# Altium footprint library Vocore2Parts.PcbLib: 23 footprints (part 1 of 2)
Each footprint in its own frame and in the unit in brackets; x right, y up, seen from the top. Pads: shape width x height; smd on the part's side, far side on the other; paste and mask are expansions set on the pad; w line width, h text height; cw(c..) or ccw(c..) is an arc to the next point about the centre after c.
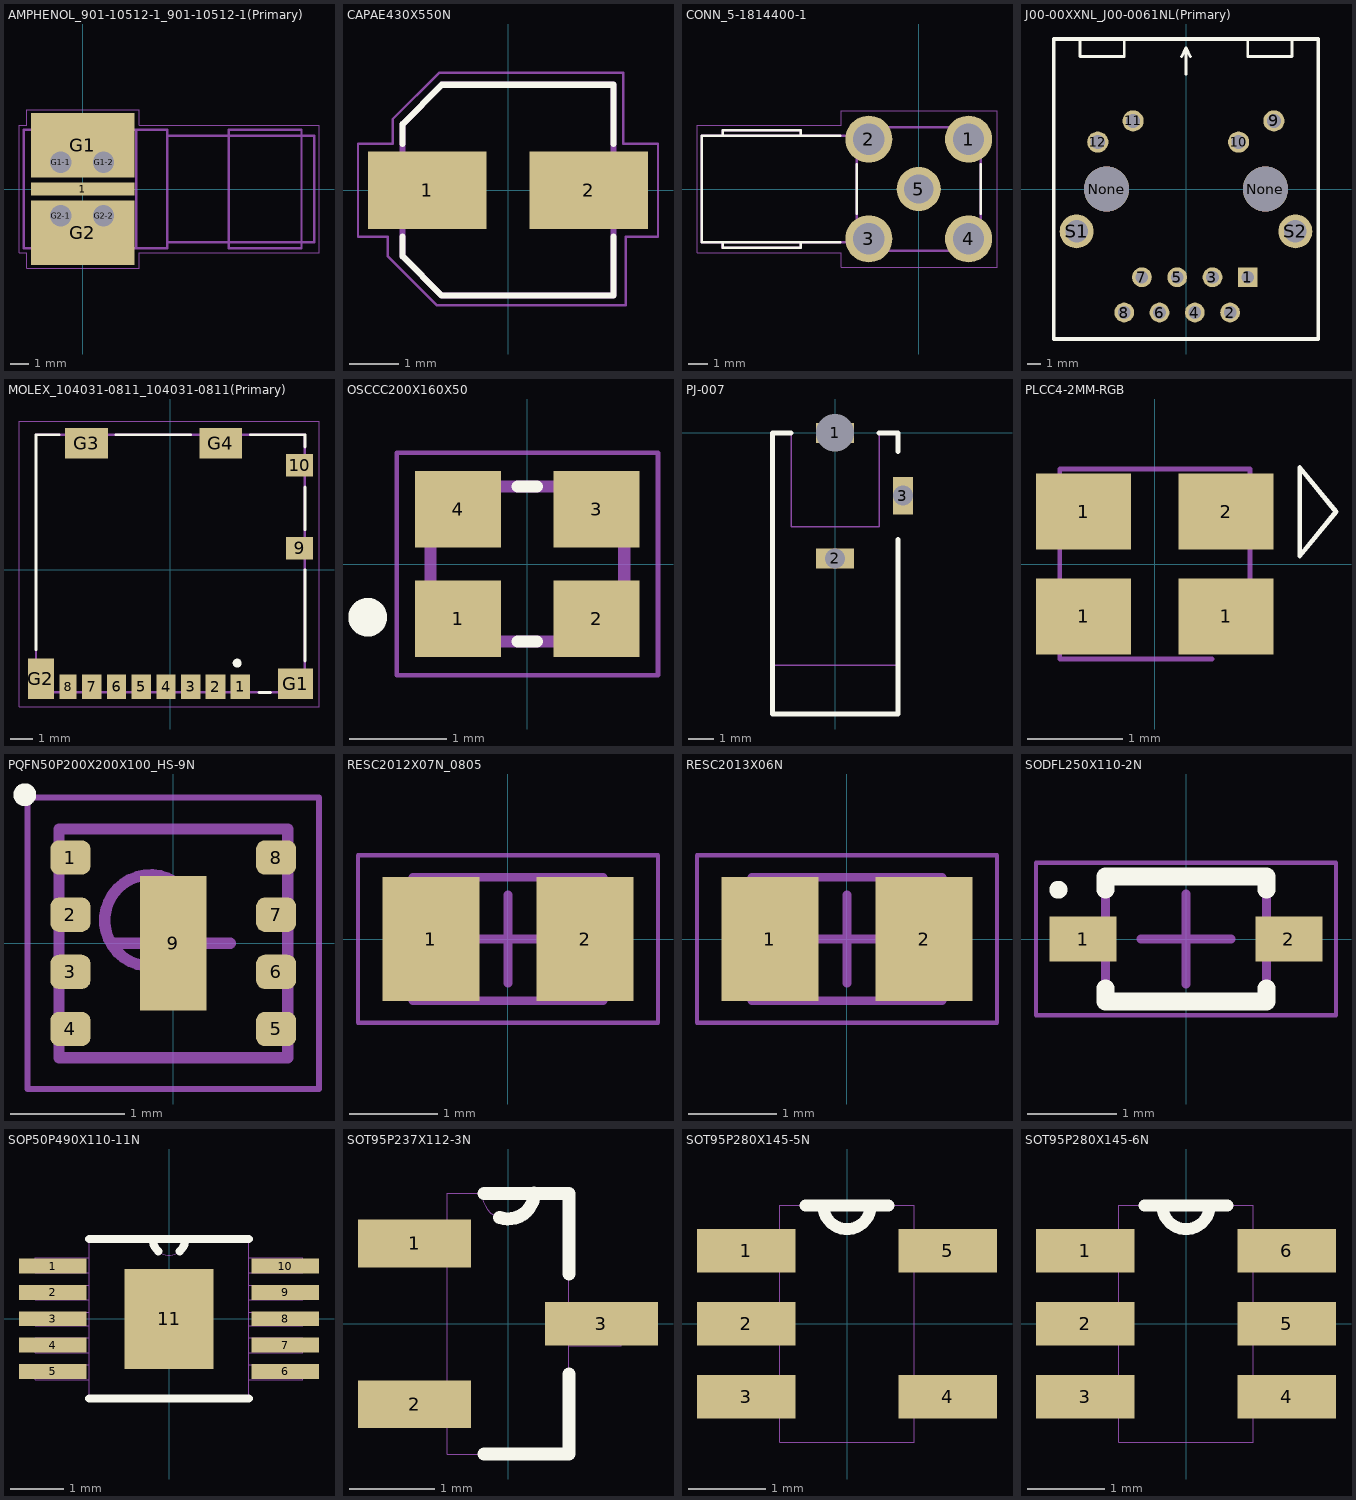
[diagram p0: the footprints below, top view; thin cyan lines are the x and y axes]

## AMPHENOL_901-10512-1_901-10512-1(Primary) [mm]
pads (7):
  rect 5.54x0.72 smd: 1(0,0)
  rect 5.54x3.45 smd: G1(0,2.34) G2(0,-2.34)
  round 1.4 hole 1.14: G1-1(-1.19,1.435) G1-2(1.102,1.435) G2-1(-1.19,-1.435) G2-2(1.102,-1.435)
Mechanical 1:
  lines w0.05: -3.425,-3.425 -3,-3.425 -3,-4.25 3,-4.25 3,-3.425 12.635,-3.425 12.635,3.425 3,3.425 3,4.25 -3,4.25 -3,3.425 -3.425,3.425 -3.425,-3.425
  lines w0.127: 2.855,-3.175 2.855,3.175 ; 2.855,-3.175 4.505,-3.175 4.505,-2.855 ; 2.855,-3.175 -3.175,-3.175 -3.175,3.175 2.855,3.175 ; 2.855,3.175 4.505,3.175 4.505,2.855 ; 4.505,-2.855 12.385,-2.855 12.385,2.855 4.505,2.855 ; 4.505,-2.855 4.505,2.855 ; 7.8,-3.175 7.8,3.175 11.7,3.175 11.7,-3.175 7.8,-3.175

## CAPAE430X550N [mm]
pads (2):
  rect 2.42x1.58 smd: 1(-1.65,0) 2(1.65,0)
Top Overlay:
  lines w0.127: -2.15,-0.95 -2.15,-1.35 -1.35,-2.15 2.15,-2.15 2.15,-0.95 ; -2.15,0.95 -2.15,1.35 -1.35,2.15 2.15,2.15 2.15,0.95
Mechanical 1:
  lines w0.05: -3.06,-0.95 -3.06,0.95 -2.35,0.95 -2.35,1.45 -1.4,2.4 2.35,2.4 2.35,0.95 3.06,0.95 3.06,-0.95 2.4,-0.95 2.4,-2.35 -1.45,-2.35 -2.45,-1.35 -2.45,-0.95 -3.06,-0.95
  lines w0.127: -2.15,-1.35 -2.15,1.35 -1.35,2.15 2.15,2.15 2.15,-2.15 -1.35,-2.15 -2.15,-1.35

## CONN_5-1814400-1 [mm]
pads (5):
  round 2.4 hole 1.6: 1(2.54,2.54) 2(-2.54,2.54) 3(-2.54,-2.54) 4(2.54,-2.54)
  round 2.25 hole 1.5: 5(0,0)
Top Overlay:
  lines w0.127: -10,-2.75 -10,-3 -6,-3 -6,-2.75 ; -10,2.75 -10,3 -6,3 -6,2.75 ; -4,-2.725 -11.05,-2.725 -11.05,2.725 -4,2.725 ; -3.15,-1.25 -3.15,1.25 ; 3.15,-1.25 3.15,1.25
Mechanical 1:
  lines w0.05: -11.3,-3.25 -11.3,3.25 -3.95,3.25 -3.95,3.99 3.99,3.99 3.99,-3.99 -3.95,-3.99 -3.95,-3.25 -11.3,-3.25
  lines w0.127: -10.002,-2.75 -10.002,-3 -6.002,-3 -6.002,-2.75 ; -10,2.75 -10,3 -6,3 -6,2.75 ; -3.238,-2.725 -11.05,-2.725 -11.05,2.725 -3.238,2.725 ; -3.15,-3.15 -3.15,3.15 3.15,3.15 3.15,-3.15 -3.15,-3.15

## J00-00XXNL_J00-0061NL(Primary) [mil]
pads (16):
  rect 56x56 hole 36: 1(175,-250)
  round 56 hole 36: 2(125,-350) 3(75,-250) 4(25,-350) 5(-25,-250) 6(-75,-350) 7(-125,-250) 8(-175,-350)
  round 60 hole 40: 9(249,193) 10(149,133) 11(-150,193) 12(-250,133)
  round 128 hole 128 unplated: None(-225,0) None(225,0)
  round 96 hole 64: S1(-310,-120) S2(310,-120)
Top Overlay:
  lines w8: -300,425 -300,375 -175,375 -175,425 ; -12.5,375 0,400 ; 0,325 0,400 ; 12.5,375 0,400 ; 175,425 175,375 300,375 300,425
  lines w10: -375,-425 375,-425 375,425 -375,425 -375,-425

## MOLEX_104031-0811_104031-0811(Primary) [mm]
pads (14):
  rect 0.85x1.1 smd: 1(3.105,-5.2) 3(0.905,-5.2) 4(-0.195,-5.2) 5(-1.295,-5.2) 6(-2.395,-5.2) 7(-3.495,-5.2)
  rect 0.875x1.1 smd: 2(2.005,-5.2)
  rect 0.75x1.1 smd: 8(-4.545,-5.2)
  rect 1.2x1 smd: 9(5.74,0.95) 10(5.74,4.65)
  rect 1.55x1.35 smd: G1(5.565,-5.075)
  rect 1.17x1.8 smd: G2(-5.755,-4.85)
  rect 1.9x1.35 smd: G3(-3.73,5.625) G4(2.24,5.625)
Top Overlay:
  circle w0.2: c2.968,-4.151 r0.1
  lines w0.127: -5.975,-3.556 -5.975,6 -4.953,6 ; -2.413,6 0.889,6 ; 3.556,6 5.975,6 5.975,5.461 ; 3.937,-5.45 4.445,-5.45 ; 5.975,-4.064 5.975,0 ; 5.975,1.778 5.975,3.683
Mechanical 1:
  lines w0.05: -6.731,-6.096 -6.731,6.604 6.604,6.604 6.604,-6.096 -6.731,-6.096
  lines w0.1: -5.975,-5.45 -5.975,6 5.975,6 5.975,-5.45 -5.975,-5.45

## OSCCC200X160X50 [mm]
pads (4):
  rect 0.89x0.79 smd: 1(-0.715,-0.565) 2(0.715,-0.565) 3(0.715,0.565) 4(-0.715,0.565)
Top Overlay:
  circle w0.2: c-1.65,-0.55 r0.1
  lines w0.127: -0.1,-0.8 0.1,-0.8 ; -0.1,0.8 0.1,0.8
Mechanical 1:
  circle w0.2: c-0.65,-0.45 r0.1
  lines w0.05: -1.35,-1.15 1.35,-1.15 1.35,1.15 -1.35,1.15 -1.35,-1.15
  lines w0.127: -1,-0.8 1,-0.8 1,0.8 -1,0.8 -1,-0.8

## PJ-007 [mm]
pads (3):
  rect 1.5x0.8 hole 1.5 square: 1(0,0)
  rect 1.5x0.8 hole 0.8 square: 2(0,-5)
  rect 0.8x1.5 hole 0.8 square: 3(2.7,-2.5)
Top Overlay:
  lines w0.203: -1.75,0 -2.5,0 -2.5,-11.2 2.5,-11.2 2.5,-4.25 ; 1.75,0 2.5,0 2.5,-0.75
Mechanical 1:
  lines w0.051: -2.5,-9.25 2.5,-9.25 ; -1.75,0 -1.75,-3.75 1.75,-3.75 1.75,0

## PLCC4-2MM-RGB [mm]
pads (4):
  rect 1x0.8 smd: 1(-0.75,-0.55) 1(-0.75,0.55) 1(0.75,-0.55) 2(0.75,0.55)
Top Overlay:
  lines w0.05: 1.524,0.084 1.905,0.55 1.524,1.016 1.524,0.084
Mechanical 1:
  lines w0.05: 0.6,-1 -1,-1 -1,1 1,1 1,-0.6

## PQFN50P200X200X100_HS-9N [mm] "PQFN, 8-Leads, Body 2.00x2.00mm, Pitch 0.50mm, Thermal Pad 0.58x1.18mm, IPC Medium Density"
height 1
pads (9):
  rrect50% 0.35x0.3 smd: 1(-0.9,0.75) 2(-0.9,0.25) 3(-0.9,-0.25) 4(-0.9,-0.75) 5(0.9,-0.75) 6(0.9,-0.25) 7(0.9,0.25) 8(0.9,0.75)
  rect 0.58x1.18 smd: 9(0,0)
Top Overlay:
  circle w0.1: c-1.3,1.3 r0.05
Mechanical 13:
  circle w0.1: c-0.2,0.2 r0.4
  lines w0.1: -1,-1 1,-1 1,1 -1,1 -1,-1
Mechanical 15:
  lines w0.05: -1.275,-1.275 1.275,-1.275 1.275,1.275 -1.275,1.275 -1.275,-1.275
  lines w0.1: -0.5,0 0.5,0 ; 0,-0.5 0,0.5
3D body: height 0.25, standoff 0, extent -1,-1 1,1

## RESC2012X07N_0805 [mm] "Chip Resistor, 2-Leads, Body 2.00x1.22mm, IPC Medium Density"
height 0.65
pads (2):
  rect 1.1x1.4 smd: 1(-0.875,0) 2(0.875,0)
Mechanical 13:
  lines w0.1: -1.075,-0.7 1.075,-0.7 1.075,0.7 -1.075,0.7 -1.075,-0.7
Mechanical 15:
  lines w0.05: -1.7,-0.95 1.7,-0.95 1.7,0.95 -1.7,0.95 -1.7,-0.95
  lines w0.1: -0.5,0 0.5,0 ; 0,-0.5 0,0.5
3D body: height 0.65, standoff 0, extent 0.675,-0.7 1.075,0.7
3D body: height 0.65, standoff 0, extent -1.075,-0.7 -0.675,0.7
3D body: height 0.65, standoff 0, extent -0.675,-0.7 0.675,0.7

## RESC2013X06N [mm] "Chip Resistor, 2-Leads, Body 2.00x1.27mm, IPC Medium Density"
height 0.65
pads (2):
  rect 1.1x1.4 smd: 1(-0.875,0) 2(0.875,0)
Mechanical 13:
  lines w0.1: -1.075,-0.7 -1.075,0.7 1.075,0.7 1.075,-0.7 -1.075,-0.7
Mechanical 15:
  lines w0.05: -1.7,-0.95 -1.7,0.95 1.7,0.95 1.7,-0.95 -1.7,-0.95
  lines w0.1: -0.5,0 0.5,0 ; 0,-0.5 0,0.5
3D body: height 0.65, standoff 0, extent -0.675,-0.7 0.675,0.7
3D body: height 0.65, standoff 0, extent -1.075,-0.7 -0.675,0.7
3D body: height 0.65, standoff 0, extent 0.675,-0.7 1.075,0.7

## SODFL250X110-2N [mm] "SODFL, 2-Leads, Body 1.25x2.50mm, IPC Medium Density"
height 1.1
pads (2):
  rect 0.75x0.5 smd: 1(-1.15,0) 2(1.15,0)
Top Overlay:
  circle w0.1: c-1.425,0.55 r0.05
  lines w0.2: -0.9,-0.55 -0.9,-0.7 0.9,-0.7 0.9,-0.55 ; -0.9,0.55 -0.9,0.7 0.9,0.7 0.9,0.55
Mechanical 13:
  lines w0.1: -0.9,-0.675 -0.9,0.675 0.9,0.675 0.9,-0.675 -0.9,-0.675
Mechanical 15:
  lines w0.05: -1.675,-0.85 -1.675,0.85 1.675,0.85 1.675,-0.85 -1.675,-0.85
  lines w0.1: -0.5,0 0.5,0 ; 0,-0.5 0,0.5
3D body: height 1.1, standoff 0, extent -0.9,-0.675 0.9,0.675

## SOP50P490X110-11N [mil]
pads (11):
  rect 50x11 smd: 1(-86,39) 2(-86,19.5) 3(-86,0) 4(-86,-19.5) 5(-86,-39) 6(86,-39) 7(86,-19.5) 8(86,0) 9(86,19.5) 10(86,39)
  rect 66x74 smd: 11(0,0)
Top Overlay:
  lines w6: -59,-59 59,-59 ; -59,59 -12,59 ; -7.99,49.99 cw(c0.11,58.99) -12,58.99 ; 7.99,49.99 ccw(c-0.11,58.99) 12,58.99 ; 59,59 12,59 ; -12,59 12,59
Mechanical 1:
  lines w0: -12,59 ccw(c0,59) 12,59 ; -12,59 -59,59 -59,-59 59,-59 59,59 12,59 ; -12,59 12,59 ; -99,-45 -59,-45 -59,-34 -99,-34 -99,-45 ; -99,-25 -59,-25 -59,-14 -99,-14 -99,-25 ; -99,-5 -59,-5 -59,5 -99,5 -99,-5 ; -99,14 -59,14 -59,25 -99,25 -99,14 ; -99,34 -59,34 -59,45 -99,45 -99,34 ; 59,-45 99,-45 99,-34 59,-34 59,-45 ; 59,-25 99,-25 99,-14 59,-14 59,-25 ; 59,-5 99,-5 99,5 59,5 59,-5 ; 59,14 99,14 99,25 59,25 59,14 ; 59,34 99,34 99,45 59,45 59,34

## SOT95P237X112-3N [mil]
pads (3):
  rect 52x22 smd: 1(-43,37) 2(-43,-37)
  rect 52x20 smd: 3(43,0)
Top Overlay:
  lines w6: -11,-60 28,-60 28,-23 ; -11,60 12,60 28,60 28,23 ; -3.9,48.96 ccw(c0.15,60.1) 12,60.1
Mechanical 1:
  lines w0: -28,-47 -52,-47 -52,-28 -28,-28 ; -28,-47 -28,-28 ; -28,-47 -28,-60 28,-60 28,-10 ; -28,-28 -28,28 ; -28,28 -52,28 -52,47 -28,47 ; -28,28 -28,47 ; -28,47 -28,60 -12,60 ; -12,60 ccw(c0,60) 12,60 ; -12,60 12,60 ; 12,60 28,60 28,10 ; 28,-10 52,-10 52,10 28,10 ; 28,-10 28,10

## SOT95P280X145-5N [mil]
pads (5):
  rect 50x22 smd: 1(-51,37) 2(-51,0) 3(-51,-37) 4(51,-37) 5(51,37)
Top Overlay:
  lines w6: -21,60 -12,60 ; 21,60 12,60 ; -12,60 ccw(c0,60) 12,60 ; -12,60 12,60
Mechanical 1:
  lines w0: -34,-47 -59,-47 -59,-28 -34,-28 ; -34,-47 -34,-28 ; -34,-47 -34,-60 34,-60 34,-47 ; -34,-28 -34,-10 ; -34,-10 -59,-10 -59,10 -34,10 ; -34,-10 -34,10 ; -34,10 -34,28 ; -34,28 -59,28 -59,47 -34,47 ; -34,28 -34,47 ; -34,47 -34,60 -12,60 ; -12,60 ccw(c0,60) 12,60 ; -12,60 12,60 ; 12,60 34,60 34,47 ; 34,-47 59,-47 59,-28 34,-28 ; 34,-47 34,-28 ; 34,-28 34,28 ; 34,28 59,28 59,47 34,47 ; 34,28 34,47

## SOT95P280X145-6N [mil]
pads (6):
  rect 50x22 smd: 1(-51,37) 2(-51,0) 3(-51,-37) 4(51,-37) 5(51,0) 6(51,37)
Top Overlay:
  lines w6: -21,60 -12,60 ; 21,60 12,60 ; -12,60 ccw(c0,60) 12,60 ; -12,60 12,60
Mechanical 1:
  lines w0: -34,-47 -59,-47 -59,-28 -34,-28 ; -34,-47 -34,-28 ; -34,-47 -34,-60 34,-60 34,-47 ; -34,-28 -34,-10 ; -34,-10 -59,-10 -59,10 -34,10 ; -34,-10 -34,10 ; -34,10 -34,28 ; -34,28 -59,28 -59,47 -34,47 ; -34,28 -34,47 ; -34,47 -34,60 -12,60 ; -12,60 ccw(c0,60) 12,60 ; -12,60 12,60 ; 12,60 34,60 34,47 ; 34,-47 59,-47 59,-28 34,-28 ; 34,-47 34,-28 ; 34,-28 34,-10 ; 34,-10 59,-10 59,10 34,10 ; 34,-10 34,10 ; 34,10 34,28 ; 34,28 59,28 59,47 34,47 ; 34,28 34,47